# Altium footprint library CONN_PLx.PcbLib: 58 footprints (part 2 of 4)
Each footprint in its own frame and in the unit in brackets; x right, y up, seen from the top. Pads: shape width x height; smd on the part's side, far side on the other; paste and mask are expansions set on the pad; w line width, h text height; cw(c..) or ccw(c..) is an arc to the next point about the centre after c.
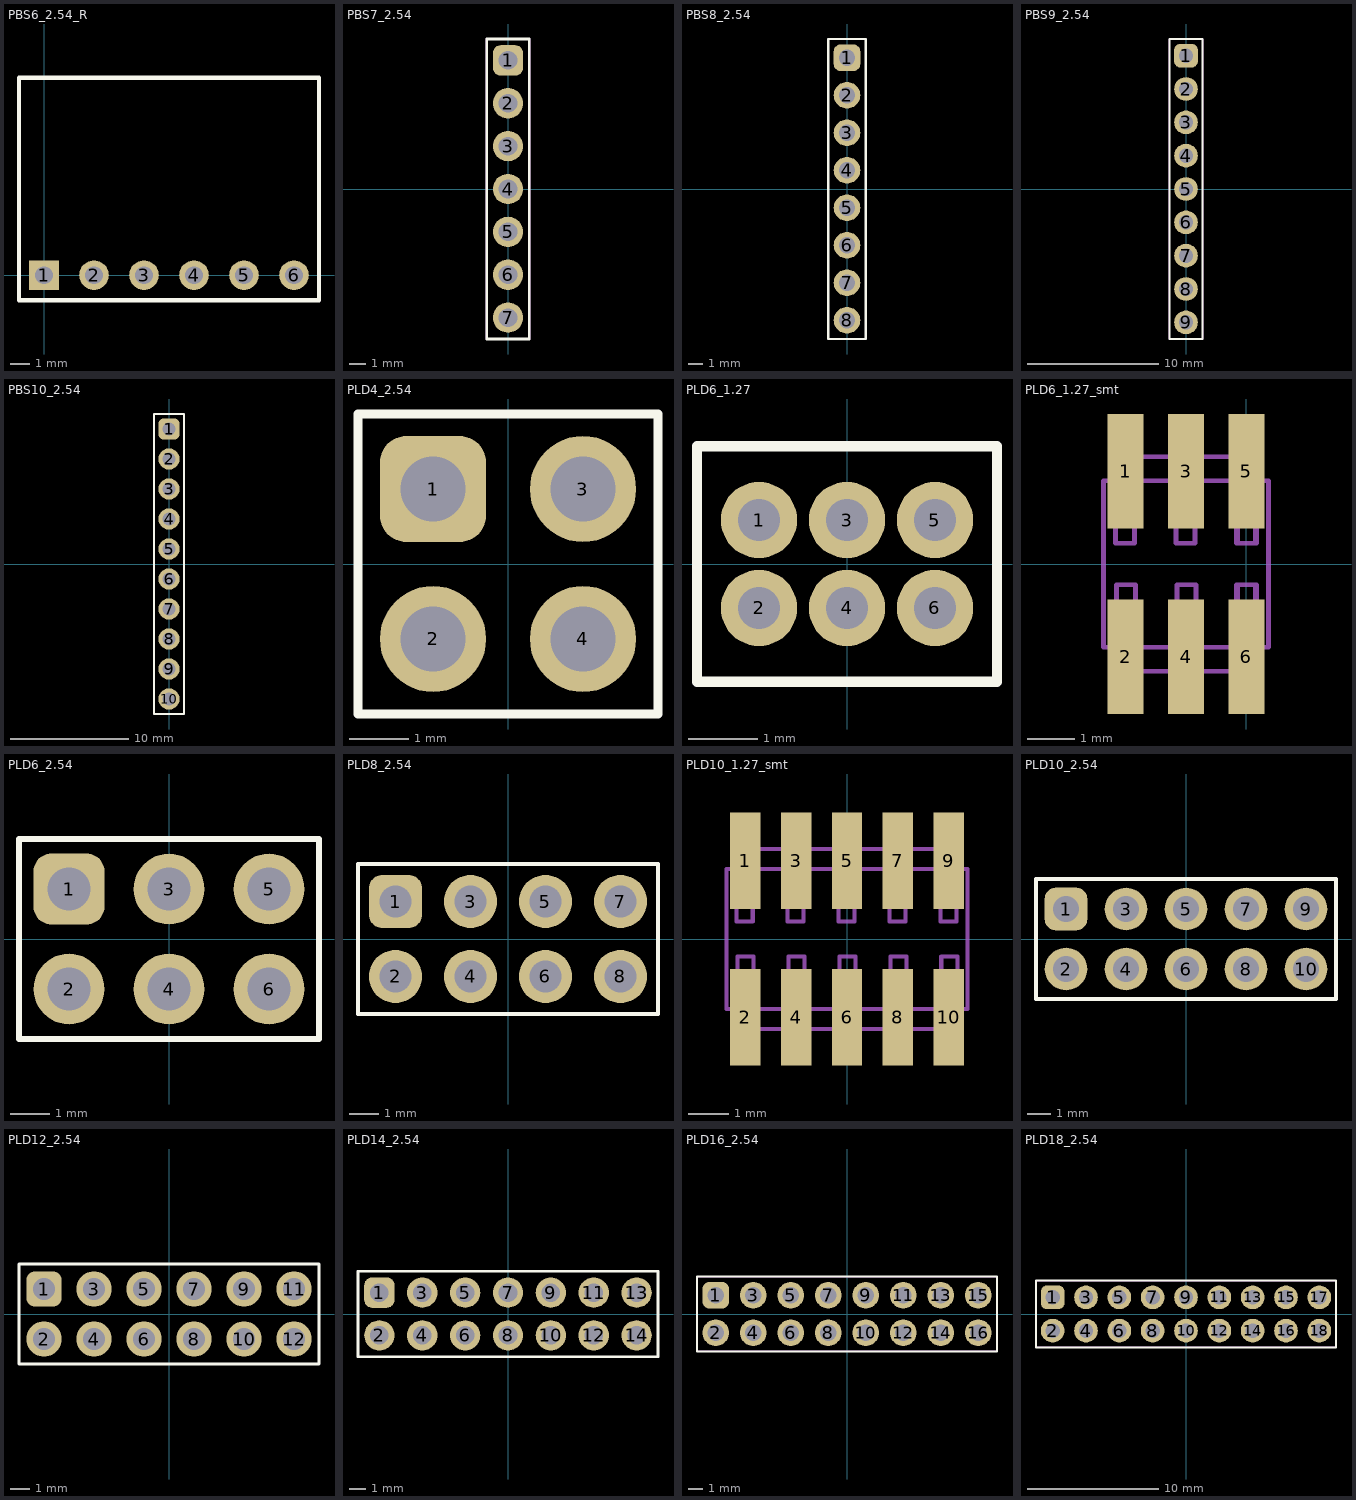
[diagram p1: the footprints below, top view; thin cyan lines are the x and y axes]

## PBS6_2.54_R [mm]
pads (6):
  rect 1.5x1.5 hole 0.9: 1(0,0)
  round 1.5 hole 0.9: 2(2.54,0) 3(5.08,0) 4(7.62,0) 5(10.16,0) 6(12.7,0)
Top Overlay:
  lines w0.22: -1.27,-1.27 -1.27,10.023 13.97,10.023 13.97,-1.27 -1.27,-1.27
Mechanical 14:
  lines w0.2: -1.26,-1.27 13.97,-1.27 13.97,10.001 -1.26,10.001 -1.26,-1.27
  text ".Designator" at 5,4.5 h1
3D body "User Library-PBS (DS1024) (1).step": height 2.54, standoff -3.3, extent -1.294,-0.077 13.946,10.123

## PBS7_2.54 [mm]
pads (7):
  rrect50% 1.8x1.8 hole 1.1: 1(0,7.62)
  round 1.8 hole 1.1: 2(0,5.08) 3(0,2.54) 4(0,0) 5(0,-2.54) 6(0,-5.08) 7(0,-7.62)
Top Overlay:
  lines w0.15: -1.27,-8.89 -1.27,8.89 1.27,8.89 1.27,-8.89 -1.27,-8.89
Mechanical 14:
  lines w0.1: -1.27,-8.89 1.27,-8.89 1.27,8.89 -1.27,8.89 -1.27,-8.89
  text ".Designator" at -0.254,-0.254 h0.7
3D body "PBS-07.step": height 8.4, standoff -3.2, extent -1.27,-8.89 1.27,8.89

## PBS8_2.54 [mm]
pads (8):
  rrect50% 1.8x1.8 hole 1.1: 1(0,8.89)
  round 1.8 hole 1.1: 2(0,6.35) 3(0,3.81) 4(0,1.27) 5(0,-1.27) 6(0,-3.81) 7(0,-6.35) 8(0,-8.89)
Top Overlay:
  lines w0.15: -1.27,-10.16 -1.27,10.16 1.27,10.16 1.27,-10.16 -1.27,-10.16
Mechanical 14:
  lines w0.1: -1.27,-10.16 1.27,-10.16 1.27,10.16 -1.27,10.16 -1.27,-10.16
  text ".Designator" at 0,0 h0.7
3D body "PBS-08.step": height 8.4, standoff -3.2, extent -1.27,-10.16 1.27,10.16

## PBS9_2.54 [mm]
pads (9):
  rrect50% 1.8x1.8 hole 1.1: 1(0,10.16)
  round 1.8 hole 1.1: 2(0,7.62) 3(0,5.08) 4(0,2.54) 5(0,0) 6(0,-2.54) 7(0,-5.08) 8(0,-7.62) 9(0,-10.16)
Top Overlay:
  lines w0.15: -1.27,-11.43 1.27,-11.43 1.27,11.43 -1.27,11.43 -1.27,-11.43
Mechanical 14:
  lines w0.1: -1.27,-11.43 -1.27,11.43 1.27,11.43 1.27,-11.43 -1.27,-11.43
  text ".Designator" at -0.254,-0.254 h0.7
3D body "PBS-09.step": height 8.4, standoff -3.2, extent -1.27,-11.43 1.27,11.43

## PBS10_2.54 [mm]
pads (10):
  rrect50% 1.8x1.8 hole 1.1: 1(0,11.43)
  round 1.8 hole 1.1: 2(0,8.89) 3(0,6.35) 4(0,3.81) 5(0,1.27) 6(0,-1.27) 7(0,-3.81) 8(0,-6.35) 9(0,-8.89) 10(0,-11.43)
Top Overlay:
  lines w0.15: -1.27,-12.7 1.27,-12.7 1.27,12.7 -1.27,12.7 -1.27,-12.7
Mechanical 14:
  lines w0.1: -1.27,-12.7 -1.27,12.7 1.27,12.7 1.27,-12.7 -1.27,-12.7
  text ".Designator" at -0.508,-0.254 h0.7
3D body "PBS-10.step": height 8.4, standoff -3.2, extent -1.27,-12.7 1.27,12.7

## PLD4_2.54 [mm]
pads (4):
  rrect50% 1.8x1.8 hole 1.1: 1(-1.27,1.27)
  round 1.8 hole 1.1: 2(-1.27,-1.27) 3(1.27,1.27) 4(1.27,-1.27)
Top Overlay:
  lines w0.15: -2.54,-2.54 -2.54,2.54 2.54,2.54 2.54,-2.54 -2.54,-2.54
Mechanical 14:
  lines w0.1: -2.54,-2.54 -2.54,2.54 2.54,2.54 2.54,-2.54 -2.54,-2.54
  text ".Designator" at -1.246,-0.324 h0.7
3D body "User Library-PLS-1.STEP": height 8.44, standoff -3, extent 0,0 2.54,2.54
3D body "User Library-PLS-1.STEP": height 8.44, standoff -3, extent 0,-2.54 2.54,0
3D body "User Library-PLS-1.STEP": height 8.44, standoff -3, extent -2.54,-2.54 0,0
3D body "User Library-PLS-1.STEP": height 8.44, standoff -3, extent -2.54,0 0,2.54

## PLD6_1.27 [mm]
pads (6):
  round 1.1 hole 0.6: 1(-1.27,0.635) 2(-1.27,-0.635) 3(0,0.635) 4(0,-0.635) 5(1.27,0.635) 6(1.27,-0.635)
Top Overlay:
  lines w0.15: 2.135,-1.7 -2.165,-1.7 -2.165,1.7 2.135,1.7 ; 2.165,-1.7 2.165,1.7
Mechanical 14:
  lines w0.1: -2.15,-1.7 2.15,-1.7 2.15,1.7 -2.15,1.7 -2.15,-1.7
  text ".Designator" at -1.5,-0.4 h0.7

## PLD6_1.27_smt [mm]
height 4.68
pads (6):
  rect 0.76x2.4 smd: 1(-2.54,1.95) 2(-2.54,-1.95) 3(-1.27,1.95) 4(-1.27,-1.95) 5(0,1.95) 6(0,-1.95)
Mechanical 14:
  lines w0.1: -2.74,-1.75 -2.74,-2.459 ccw(c-2.54,-2.459) -2.34,-2.459 -2.34,-2.25 ; -2.74,1.75 -2.74,2.459 cw(c-2.54,2.459) -2.34,2.459 -2.34,2.25 ; -2.5,-1.75 -2.5,-2.25 -0.04,-2.25 -0.04,-1.75 ; -2.5,1.75 -2.5,2.25 -1.25,2.25 -0.04,2.25 -0.04,1.75 ; -1.47,-2.25 -1.47,-2.459 ccw(c-1.27,-2.459) -1.07,-2.459 -1.07,-2.25 ; -1.47,2.25 -1.47,2.459 cw(c-1.27,2.459) -1.07,2.459 -1.07,2.25 ; 0.2,-2.25 0.2,-2.459 ; 0.2,-1.75 0.2,-2.459 ; 0.2,1.75 0.2,2.459 ; -0.2,-2.459 ccw(c0,-2.459) 0.2,-2.459 ; -0.2,-2.459 ccw(c0,-2.459) 0.2,-2.459 ; -0.2,-2.459 -0.2,-2.25 -0.2,-2.459 ; -0.2,2.459 cw(c0,2.459) 0.2,2.459 ; -0.2,2.459 cw(c0,2.459) 0.2,2.459 ; -0.2,2.459 -0.2,2.25 -0.2,2.459 ; -3,-1.75 0.46,-1.75 0.46,1.75 -3,1.75 -3,-1.75 ; -2.75,0.435 -2.35,0.435 -2.35,0.835 -2.75,0.835 -2.75,0.435 ; -2.73,-0.835 -2.73,-0.435 -2.33,-0.435 -2.33,-0.835 -2.73,-0.835 ; -1.48,0.435 -1.08,0.435 -1.08,0.835 -1.48,0.835 -1.48,0.435 ; -1.46,-0.835 -1.46,-0.435 -1.06,-0.435 -1.06,-0.835 -1.46,-0.835 ; -0.21,-0.835 -0.21,-0.435 0.19,-0.435 0.19,-0.835 -0.21,-0.835 ; -0.21,0.435 0.19,0.435 0.19,0.835 -0.21,0.835 -0.21,0.435 ; -0.19,-0.835 -0.19,-0.435 0.21,-0.435 0.21,-0.835 -0.19,-0.835 ; -0.19,0.435 -0.19,0.835 0.21,0.835 0.21,0.435 -0.19,0.435
  text ".Designator" at -2,-0.2 h0.6

## PLD6_2.54 [mm]
pads (6):
  rrect50% 1.8x1.8 hole 1.1: 1(-2.54,1.27)
  round 1.8 hole 1.1: 2(-2.54,-1.27) 3(0,1.27) 4(0,-1.27) 5(2.54,1.27) 6(2.54,-1.27)
Top Overlay:
  lines w0.15: -3.81,-2.54 -3.81,2.54 3.81,2.54 3.81,-2.54 -3.81,-2.54
Mechanical 14:
  lines w0.1: -3.81,-2.54 3.81,-2.54 3.81,2.54 -3.81,2.54 -3.81,-2.54
  text ".Designator" at -2.646,-0.224 h0.7
3D body "User Library-PLS-1.STEP": height 8.44, standoff -3, extent -3.81,0 -1.27,2.54
3D body "User Library-PLS-1.STEP": height 8.44, standoff -3, extent -3.81,-2.54 -1.27,0
3D body "User Library-PLS-1.STEP": height 8.44, standoff -3, extent -1.27,-2.54 1.27,0
3D body "User Library-PLS-1.STEP": height 8.44, standoff -3, extent -1.27,0 1.27,2.54
3D body "User Library-PLS-1.STEP": height 8.44, standoff -3, extent 1.27,-2.54 3.81,0
3D body "User Library-PLS-1.STEP": height 8.44, standoff -3, extent 1.27,0 3.81,2.54

## PLD8_2.54 [mm]
pads (8):
  rrect50% 1.8x1.8 hole 1.1: 1(-3.81,1.27)
  round 1.8 hole 1.1: 2(-3.81,-1.27) 3(-1.27,1.27) 4(-1.27,-1.27) 5(1.27,1.27) 6(1.27,-1.27) 7(3.81,1.27) 8(3.81,-1.27)
Top Overlay:
  lines w0.15: -5.08,-2.54 -5.08,2.54 5.08,2.54 5.08,-2.54 -5.08,-2.54
Mechanical 14:
  lines w0.1: -5.08,-2.54 -5.08,2.54 5.08,2.54 5.08,-2.54 -5.08,-2.54
  text ".Designator" at -3.646,-0.224 h0.7
3D body "User Library-PLS-1.STEP": height 8.44, standoff -3, extent 0,0 2.54,2.54
3D body "User Library-PLS-1.STEP": height 8.44, standoff -3, extent 0,-2.54 2.54,0
3D body "User Library-PLS-1.STEP": height 8.44, standoff -3, extent 2.54,-2.54 5.08,0
3D body "User Library-PLS-1.STEP": height 8.44, standoff -3, extent 2.54,0 5.08,2.54
3D body "User Library-PLS-1.STEP": height 8.44, standoff -3, extent -5.08,0 -2.54,2.54
3D body "User Library-PLS-1.STEP": height 8.44, standoff -3, extent -5.08,-2.54 -2.54,0
3D body "User Library-PLS-1.STEP": height 8.44, standoff -3, extent -2.54,-2.54 0,0
3D body "User Library-PLS-1.STEP": height 8.44, standoff -3, extent -2.54,0 0,2.54

## PLD10_1.27_smt [mm]
height 4.68
pads (10):
  rect 0.76x2.4 smd: 1(-2.54,1.95) 2(-2.54,-1.95) 3(-1.27,1.95) 4(-1.27,-1.95) 5(0,1.95) 6(0,-1.95) 7(1.27,1.95) 8(1.27,-1.95) 9(2.54,1.95) 10(2.54,-1.95)
Mechanical 14:
  lines w0.1: -2.74,-1.75 -2.74,-2.459 ccw(c-2.54,-2.459) -2.34,-2.459 -2.34,-2.25 ; -2.74,1.75 -2.74,2.459 cw(c-2.54,2.459) -2.34,2.459 -2.34,2.25 ; -2.5,-1.75 -2.5,-2.25 2.5,-2.25 2.5,-1.75 ; -2.5,1.75 -2.5,2.25 -1.25,2.25 ; -1.47,-2.25 -1.47,-2.459 ccw(c-1.27,-2.459) -1.07,-2.459 -1.07,-2.25 ; -1.47,2.25 -1.47,2.459 cw(c-1.27,2.459) -1.07,2.459 -1.07,2.25 ; -1.25,1.75 -1.25,2.25 ; -0.2,-2.25 -0.2,-2.459 ccw(c0,-2.459) 0.2,-2.459 0.2,-2.25 ; -0.2,2.25 -0.2,2.459 cw(c0,2.459) 0.2,2.459 0.2,2.25 ; 1.07,-2.25 1.07,-2.459 ccw(c1.27,-2.459) 1.47,-2.459 1.47,-2.25 ; 1.07,2.25 1.07,2.459 cw(c1.27,2.459) 1.47,2.459 1.47,2.25 ; 1.25,1.75 1.25,2.25 ; 2.34,-2.25 2.34,-2.459 ccw(c2.54,-2.459) 2.74,-2.459 2.74,-1.75 ; 2.34,2.25 2.34,2.459 cw(c2.54,2.459) 2.74,2.459 2.74,1.75 ; 2.5,1.75 2.5,2.25 1.25,2.25 ; -1.25,2.25 1.25,2.25 ; -3,-1.75 -3,1.75 3,1.75 3,-1.75 -3,-1.75 ; -2.75,0.435 -2.75,0.835 -2.35,0.835 -2.35,0.435 -2.75,0.435 ; -2.73,-0.835 -2.33,-0.835 -2.33,-0.435 -2.73,-0.435 -2.73,-0.835 ; -1.48,0.435 -1.48,0.835 -1.08,0.835 -1.08,0.435 -1.48,0.435 ; -1.46,-0.835 -1.06,-0.835 -1.06,-0.435 -1.46,-0.435 -1.46,-0.835 ; -0.21,0.435 -0.21,0.835 0.19,0.835 0.19,0.435 -0.21,0.435 ; -0.19,-0.835 0.21,-0.835 0.21,-0.435 -0.19,-0.435 -0.19,-0.835 ; 1.06,0.435 1.06,0.835 1.46,0.835 1.46,0.435 1.06,0.435 ; 1.08,-0.835 1.48,-0.835 1.48,-0.435 1.08,-0.435 1.08,-0.835 ; 2.33,0.435 2.33,0.835 2.73,0.835 2.73,0.435 2.33,0.435 ; 2.35,-0.835 2.75,-0.835 2.75,-0.435 2.35,-0.435 2.35,-0.835
  text ".Designator" at -0.5,-0.2 h0.6
3D body "Samtec-FTSH-105-01-F-DV-K.step": height 6.11, standoff -0.01, extent -3.137,-2.921 3.137,2.921

## PLD10_2.54 [mm]
pads (10):
  rrect50% 1.8x1.8 hole 1.1: 1(-5.08,1.27)
  round 1.8 hole 1.1: 2(-5.08,-1.27) 3(-2.54,1.27) 4(-2.54,-1.27) 5(0,1.27) 6(0,-1.27) 7(2.54,1.27) 8(2.54,-1.27) 9(5.08,1.27) 10(5.08,-1.27)
Top Overlay:
  lines w0.15: -6.35,-2.54 -6.35,2.54 6.35,2.54 6.35,-2.54 -6.35,-2.54
Mechanical 14:
  lines w0.1: -6.35,-2.54 -6.35,2.54 6.35,2.54 6.35,-2.54 -6.35,-2.54
  text ".Designator" at -4.846,-0.224 h0.7
3D body "User Library-PLS-1.STEP": height 8.44, standoff -3, extent 3.81,-2.54 6.35,0
3D body "User Library-PLS-1.STEP": height 8.44, standoff -3, extent 3.81,0 6.35,2.54
3D body "User Library-PLS-1.STEP": height 8.44, standoff -3, extent -3.81,0 -1.27,2.54
3D body "User Library-PLS-1.STEP": height 8.44, standoff -3, extent -3.81,-2.54 -1.27,0
3D body "User Library-PLS-1.STEP": height 8.44, standoff -3, extent -6.35,-2.54 -3.81,0
3D body "User Library-PLS-1.STEP": height 8.44, standoff -3, extent -6.35,0 -3.81,2.54
3D body "User Library-PLS-1.STEP": height 8.44, standoff -3, extent 1.27,0 3.81,2.54
3D body "User Library-PLS-1.STEP": height 8.44, standoff -3, extent 1.27,-2.54 3.81,0
3D body "User Library-PLS-1.STEP": height 8.44, standoff -3, extent -1.27,-2.54 1.27,0
3D body "User Library-PLS-1.STEP": height 8.44, standoff -3, extent -1.27,0 1.27,2.54

## PLD12_2.54 [mm]
pads (12):
  rrect50% 1.8x1.8 hole 1.1: 1(-6.35,1.27)
  round 1.8 hole 1.1: 2(-6.35,-1.27) 3(-3.81,1.27) 4(-3.81,-1.27) 5(-1.27,1.27) 6(-1.27,-1.27) 7(1.27,1.27) 8(1.27,-1.27) 9(3.81,1.27) 10(3.81,-1.27) 11(6.35,1.27) 12(6.35,-1.27)
Top Overlay:
  lines w0.15: -7.62,-2.54 7.62,-2.54 7.62,2.54 -7.62,2.54 -7.62,-2.54
Mechanical 14:
  lines w0.1: -7.62,-2.54 7.62,-2.54 7.62,2.54 -7.62,2.54 -7.62,-2.54
  text ".Designator" at -6.146,-0.224 h0.7
3D body "User Library-PLS-1.STEP": height 8.44, standoff -3, extent 2.54,-2.54 5.08,0
3D body "User Library-PLS-1.STEP": height 8.44, standoff -3, extent 2.54,0 5.08,2.54
3D body "User Library-PLS-1.STEP": height 8.44, standoff -3, extent -5.08,0 -2.54,2.54
3D body "User Library-PLS-1.STEP": height 8.44, standoff -3, extent -5.08,-2.54 -2.54,0
3D body "User Library-PLS-1.STEP": height 8.44, standoff -3, extent -7.62,-2.54 -5.08,0
3D body "User Library-PLS-1.STEP": height 8.44, standoff -3, extent -7.62,0 -5.08,2.54
3D body "User Library-PLS-1.STEP": height 8.44, standoff -3, extent 0,0 2.54,2.54
3D body "User Library-PLS-1.STEP": height 8.44, standoff -3, extent 0,-2.54 2.54,0
3D body "User Library-PLS-1.STEP": height 8.44, standoff -3, extent -2.54,-2.54 0,0
3D body "User Library-PLS-1.STEP": height 8.44, standoff -3, extent -2.54,0 0,2.54
3D body "User Library-PLS-1.STEP": height 8.44, standoff -3, extent 5.08,0 7.62,2.54
3D body "User Library-PLS-1.STEP": height 8.44, standoff -3, extent 5.08,-2.54 7.62,0

## PLD14_2.54 [mm]
pads (14):
  rrect50% 1.8x1.8 hole 1.1: 1(-7.62,1.27)
  round 1.8 hole 1.1: 2(-7.62,-1.27) 3(-5.08,1.27) 4(-5.08,-1.27) 5(-2.54,1.27) 6(-2.54,-1.27) 7(0,1.27) 8(0,-1.27) 9(2.54,1.27) 10(2.54,-1.27) 11(5.08,1.27) 12(5.08,-1.27) 13(7.62,1.27) 14(7.62,-1.27)
Top Overlay:
  lines w0.15: -8.89,-2.54 8.89,-2.54 8.89,2.54 -8.89,2.54 -8.89,-2.54
Mechanical 14:
  lines w0.1: -8.89,-2.54 8.89,-2.54 8.89,2.54 -8.89,2.54 -8.89,-2.54
  text ".Designator" at -7.346,-0.224 h0.7
3D body "User Library-PLS-1.STEP": height 8.44, standoff -3, extent 3.81,-2.54 6.35,0
3D body "User Library-PLS-1.STEP": height 8.44, standoff -3, extent 3.81,0 6.35,2.54
3D body "User Library-PLS-1.STEP": height 8.44, standoff -3, extent -3.81,0 -1.27,2.54
3D body "User Library-PLS-1.STEP": height 8.44, standoff -3, extent -3.81,-2.54 -1.27,0
3D body "User Library-PLS-1.STEP": height 8.44, standoff -3, extent -1.27,-2.54 1.27,0
3D body "User Library-PLS-1.STEP": height 8.44, standoff -3, extent -1.27,0 1.27,2.54
3D body "User Library-PLS-1.STEP": height 8.44, standoff -3, extent -8.89,0 -6.35,2.54
3D body "User Library-PLS-1.STEP": height 8.44, standoff -3, extent -8.89,-2.54 -6.35,0
3D body "User Library-PLS-1.STEP": height 8.44, standoff -3, extent -6.35,-2.54 -3.81,0
3D body "User Library-PLS-1.STEP": height 8.44, standoff -3, extent -6.35,0 -3.81,2.54
3D body "User Library-PLS-1.STEP": height 8.44, standoff -3, extent 1.27,0 3.81,2.54
3D body "User Library-PLS-1.STEP": height 8.44, standoff -3, extent 1.27,-2.54 3.81,0
3D body "User Library-PLS-1.STEP": height 8.44, standoff -3, extent 6.35,0 8.89,2.54
3D body "User Library-PLS-1.STEP": height 8.44, standoff -3, extent 6.35,-2.54 8.89,0

## PLD16_2.54 [mm]
pads (16):
  rrect50% 1.8x1.8 hole 1.1: 1(-8.89,1.27)
  round 1.8 hole 1.1: 2(-8.89,-1.27) 3(-6.35,1.27) 4(-6.35,-1.27) 5(-3.81,1.27) 6(-3.81,-1.27) 7(-1.27,1.27) 8(-1.27,-1.27) 9(1.27,1.27) 10(1.27,-1.27) 11(3.81,1.27) 12(3.81,-1.27) 13(6.35,1.27) 14(6.35,-1.27) 15(8.89,1.27) 16(8.89,-1.27)
Top Overlay:
  lines w0.15: -10.16,-2.54 -10.16,2.54 10.16,2.54 10.16,-2.54 -10.16,-2.54
Mechanical 14:
  lines w0.1: -10.16,-2.54 -10.16,2.54 10.16,2.54 10.16,-2.54 -10.16,-2.54
  text ".Designator" at -8.646,-0.224 h0.7
3D body "User Library-PLS-1.STEP": height 8.44, standoff -3, extent 7.62,-2.54 10.16,0
3D body "User Library-PLS-1.STEP": height 8.44, standoff -3, extent 7.62,0 10.16,2.54
3D body "User Library-PLS-1.STEP": height 8.44, standoff -3, extent 2.54,-2.54 5.08,0
3D body "User Library-PLS-1.STEP": height 8.44, standoff -3, extent 2.54,0 5.08,2.54
3D body "User Library-PLS-1.STEP": height 8.44, standoff -3, extent -5.08,0 -2.54,2.54
3D body "User Library-PLS-1.STEP": height 8.44, standoff -3, extent -5.08,-2.54 -2.54,0
3D body "User Library-PLS-1.STEP": height 8.44, standoff -3, extent -2.54,-2.54 0,0
3D body "User Library-PLS-1.STEP": height 8.44, standoff -3, extent -2.54,0 0,2.54
3D body "User Library-PLS-1.STEP": height 8.44, standoff -3, extent -10.16,0 -7.62,2.54
3D body "User Library-PLS-1.STEP": height 8.44, standoff -3, extent -10.16,-2.54 -7.62,0
3D body "User Library-PLS-1.STEP": height 8.44, standoff -3, extent -7.62,-2.54 -5.08,0
3D body "User Library-PLS-1.STEP": height 8.44, standoff -3, extent -7.62,0 -5.08,2.54
3D body "User Library-PLS-1.STEP": height 8.44, standoff -3, extent 0,0 2.54,2.54
3D body "User Library-PLS-1.STEP": height 8.44, standoff -3, extent 0,-2.54 2.54,0
3D body "User Library-PLS-1.STEP": height 8.44, standoff -3, extent 5.08,0 7.62,2.54
3D body "User Library-PLS-1.STEP": height 8.44, standoff -3, extent 5.08,-2.54 7.62,0

## PLD18_2.54 [mm]
pads (18):
  rrect50% 1.8x1.8 hole 1.1: 1(-10.16,1.27)
  round 1.8 hole 1.1: 2(-10.16,-1.27) 3(-7.62,1.27) 4(-7.62,-1.27) 5(-5.08,1.27) 6(-5.08,-1.27) 7(-2.54,1.27) 8(-2.54,-1.27) 9(0,1.27) 10(0,-1.27) 11(2.54,1.27) 12(2.54,-1.27) 13(5.08,1.27) 14(5.08,-1.27) 15(7.62,1.27) 16(7.62,-1.27) 17(10.16,1.27) 18(10.16,-1.27)
Top Overlay:
  lines w0.15: -11.43,-2.54 -11.43,2.54 11.43,2.54 11.43,-2.54 -11.43,-2.54
Mechanical 14:
  lines w0.1: -11.43,-2.54 -11.43,2.54 11.43,2.54 11.43,-2.54 -11.43,-2.54
  text ".Designator" at -9.946,-0.224 h0.7
3D body "User Library-PLS-1.STEP": height 8.44, standoff -3, extent 6.35,-2.54 8.89,0
3D body "User Library-PLS-1.STEP": height 8.44, standoff -3, extent 6.35,0 8.89,2.54
3D body "User Library-PLS-1.STEP": height 8.44, standoff -3, extent 1.27,-2.54 3.81,0
3D body "User Library-PLS-1.STEP": height 8.44, standoff -3, extent 1.27,0 3.81,2.54
3D body "User Library-PLS-1.STEP": height 8.44, standoff -3, extent -6.35,0 -3.81,2.54
3D body "User Library-PLS-1.STEP": height 8.44, standoff -3, extent -6.35,-2.54 -3.81,0
3D body "User Library-PLS-1.STEP": height 8.44, standoff -3, extent -3.81,-2.54 -1.27,0
3D body "User Library-PLS-1.STEP": height 8.44, standoff -3, extent -3.81,0 -1.27,2.54
3D body "User Library-PLS-1.STEP": height 8.44, standoff -3, extent -11.43,0 -8.89,2.54
3D body "User Library-PLS-1.STEP": height 8.44, standoff -3, extent -11.43,-2.54 -8.89,0
3D body "User Library-PLS-1.STEP": height 8.44, standoff -3, extent -8.89,-2.54 -6.35,0
3D body "User Library-PLS-1.STEP": height 8.44, standoff -3, extent -8.89,0 -6.35,2.54
3D body "User Library-PLS-1.STEP": height 8.44, standoff -3, extent -1.27,0 1.27,2.54
3D body "User Library-PLS-1.STEP": height 8.44, standoff -3, extent -1.27,-2.54 1.27,0
3D body "User Library-PLS-1.STEP": height 8.44, standoff -3, extent 3.81,0 6.35,2.54
3D body "User Library-PLS-1.STEP": height 8.44, standoff -3, extent 3.81,-2.54 6.35,0
3D body "User Library-PLS-1.STEP": height 8.44, standoff -3, extent 8.89,0 11.43,2.54
3D body "User Library-PLS-1.STEP": height 8.44, standoff -3, extent 8.89,-2.54 11.43,0